# EAGLE library part PINHD-1X8 (library Pin Header)
PIN HEADER
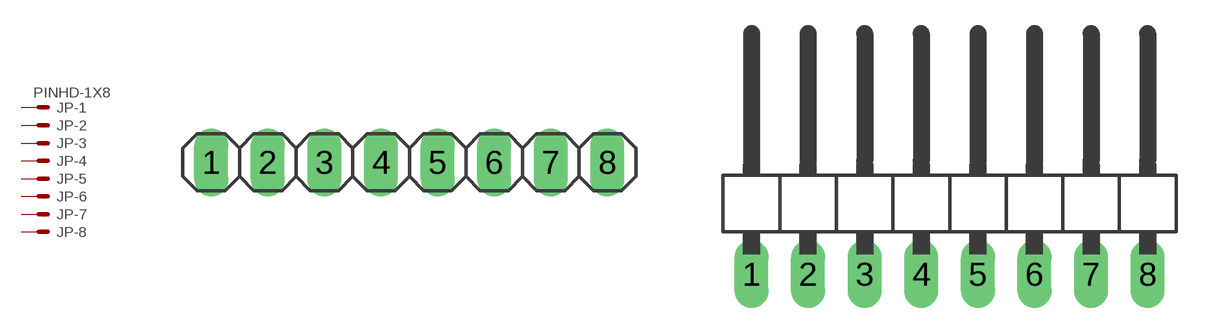
[diagram p10: symbol with the pads of 1X08; footprints 1X08, 1X08/90]

Designator prefix JP; gates -1=KV -2=K -3=K -4=K -5=K -6=K -7=K -8=K

## PINHD-1X8  [1X08]
1  -1:S  pas
2  -2:S  pas
3  -3:S  pas
4  -4:S  pas
5  -5:S  pas
6  -6:S  pas
7  -7:S  pas
8  -8:S  pas

## PINHD-1X8/90  [1X08/90]
Pads as for 1X08

## PINHD-1X8/CH  [1X08/CH]
Pads as for 1X08

## Footprint 1X08 (pad centres in mm)
PIN HEADER
drill 1.016 long: 1 -8.89,0; 2 -6.35,0; 3 -3.81,0; 4 -1.27,0; 5 1.27,0; 6 3.81,0; 7 6.35,0; 8 8.89,0

## Footprint 1X08/90 (pad centres in mm)
PIN HEADER
drill 1.016 long: 1 -8.89,-3.81; 2 -6.35,-3.81; 3 -3.81,-3.81; 4 -1.27,-3.81; 5 1.27,-3.81; 6 3.81,-3.81; 7 6.35,-3.81; 8 8.89,-3.81

## Footprint 1X08/CH (pad centres in mm)
PIN HEADER
drill 1.016 pad 1.626 offset: 1 -6.35,0; 2 -3.81,0; 3 -1.27,0; 4 1.27,0; 5 3.81,-0.025; 6 6.35,0; 7 8.89,0; 8 11.43,0
hole 1.016 at -6.35,1.6
hole 1.016 at -3.81,1.6
hole 1.016 at -1.27,1.6
hole 1.016 at 1.27,1.6
hole 1.016 at 3.81,1.6
hole 1.016 at 6.35,1.6
hole 1.016 at 8.89,1.6
hole 1.016 at 11.43,1.6